# Altium footprint library HD301_driver.PcbLib: 20 footprints (part 2 of 2)
Each footprint in its own frame and in the unit in brackets; x right, y up, seen from the top. Pads: shape width x height; smd on the part's side, far side on the other; paste and mask are expansions set on the pad; w line width, h text height; cw(c..) or ccw(c..) is an arc to the next point about the centre after c.
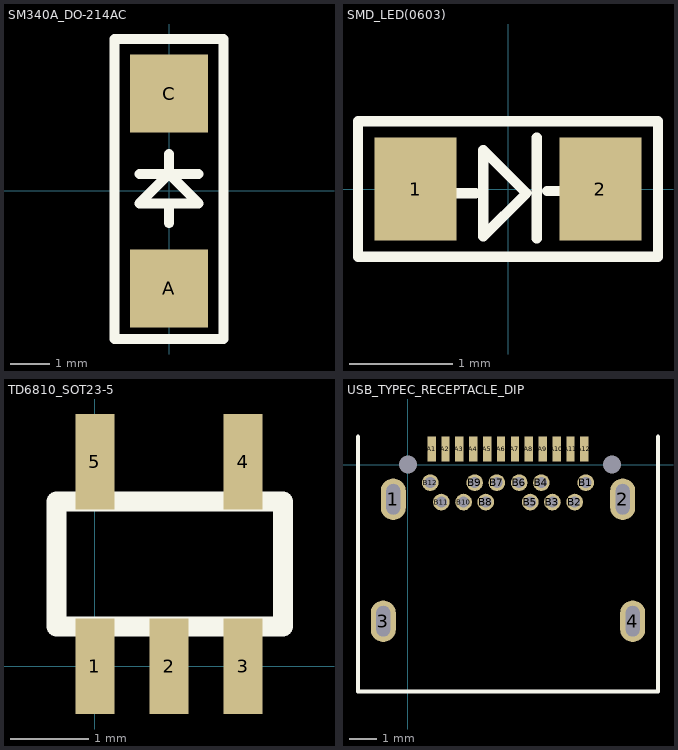
[diagram p1: the footprints below, top view; thin cyan lines are the x and y axes]

## SM340A_DO-214AC [mm]
pads (2):
  rrect0% 2x2 smd: A(0,-2.5) C(0,2.5)
Top Overlay:
  lines w0.254: -0.762,0.44 0,0.44 ; 0,-0.83 0,-0.322 ; 0,0.948 0,0.44 ; 0.762,0.44 0,0.44 ; 0,0.44 -0.762,-0.322 0.762,-0.322 0,0.44 ; -1.4,-3.8 -1.4,3.9 1.4,3.9 1.4,-3.8 -1.4,-3.8

## SMD_LED(0603) [mm]
pads (2):
  rect 0.8x1 smd: 1(-0.9,0) 2(0.9,0)
Top Overlay:
  lines w0.1: -0.7,-0.042 -0.32,-0.042 ; 0.28,-0.48 0.28,0.5 ; 0.38,-0.02 0.7,-0.02 ; -1.46,-0.66 -1.46,0.66 1.46,0.66 1.46,-0.66 -1.46,-0.66 ; -0.24,-0.46 -0.24,0.38 0.18,-0.04 -0.24,-0.46

## TD6810_SOT23-5 [mm]
pads (5):
  rect 0.5x1.22 smd: 1(0,0) 2(0.95,0) 3(1.9,0) 4(1.9,2.62) 5(0,2.62)
Top Overlay:
  lines w0.254: -0.49,0.51 2.41,0.51 2.41,2.11 -0.49,2.11 -0.49,0.51

## USB_TYPEC_RECEPTACLE_DIP [mm]
pads (30):
  oval 0.9x1.5 hole 0.5 slot 1.1 at 90 deg: 1(-0.53,-1.25) 2(7.73,-1.25) 3(-0.89,-5.64) 4(8.09,-5.64)
  round 0 hole 0.65: 5(0,0) 6(7.35,0)
  rect 0.3x0.9 smd: A1(0.85,0.56) A2(1.35,0.56) A3(1.85,0.56) A4(2.35,0.56) A5(2.85,0.56) A6(3.35,0.56) A7(3.85,0.56) A8(4.35,0.56) A9(4.85,0.56) A10(5.35,0.56) A11(5.85,0.56) A12(6.35,0.56)
  round 0.6 hole 0.4: B1(6.4,-0.65) B2(6,-1.35) B3(5.2,-1.35) B4(4.8,-0.65) B5(4.4,-1.35) B6(4,-0.65) B7(3.2,-0.65) B8(2.8,-1.35) B9(2.4,-0.65) B10(2,-1.35) B11(1.2,-1.35) B12(0.8,-0.65)
Top Overlay:
  lines w0.15: -1.8,1 -1.8,-8.17 9,-8.17 9,1